# Altium integrated library General ICs.IntLib: 2 symbols
Pins are listed as number, name and electrical type; pins without a type are passive.

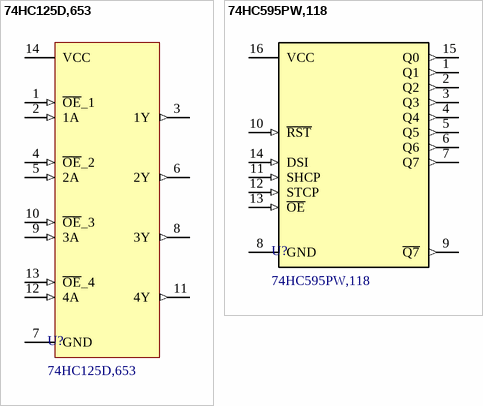
[diagram p0: symbols 74HC125D,653 to 74HC595PW,118]

## 74HC125D,653
designator U?
Quad buffer/line driver; 3-state; Manufacturer: Nexperia; Suplier 1: LCSC; ComponentLink1Description: LCSC; ComponentLink1URL: https://www.lcsc.com/product-detail/C5598.html?s_z=n_q_t_74HC125&spm=wm.fly.bg.16.xh___wm.ssy.tc.0.tz&lcsc_vid=EVRWVVBURVgMUVdfEVEIBl1XQFJcAlIHEQJYBgZQRAIxVlNeQFNYU1FfRFldXjsOAxUeFF5JWBYZEEoKFBINSQcJGk4%3D; ComponentLink2Description: Datasheet; ComponentLink2URL: https://www.lcsc.com/datasheet/C5598.pdf?spm=wm.sxq.inf.ggs___wm.fly.bg.16.xh&lcsc_vid=EVRWVVBURVgMUVdfEVEIBl1XQFJcAlIHEQJYBgZQRAIxVlNeQFNYU1FfRFldXjsOAxUeFF5JWBYZEEoKFBINSQcJGk4%3D; Manufacturer Part Number: 74HC125D,653; Supplier 1 Part Number: C5598
footprint 74HC125D,653
pins: 1 ~{OE}_1 (in), 2 1A (in), 3 1Y (out), 4 ~{OE}_2 (in), 5 2A (in), 6 2Y (out), 7 GND (power), 8 3Y (out), 9 3A (in), 10 ~{OE}_3 (in), 11 4Y (out), 12 4A (in), 13 ~{OE}_4 (in), 14 VCC (power)

## 74HC595PW,118
designator U?
8-bit serial-in, serial or parallel-out shift register with output latches; 3-state; Manufacturer: Nexperia; Manufacturer Part Number: 74HC595PW,118; Supplier 1: LCSC; Supplier 1 Part Number: C5948; Package: TSSOP-16; ComponentLink1Description: Datasheet; ComponentLink1URL: https://www.lcsc.com/datasheet/C5948.pdf?spm=wm.sxq.inf.ggs___wm.fly.bg.2.xh&lcsc_vid=ElNeBldWEwdbVQBQQQRYAgdSFQAMUlRfFFMMUAZRTgIxVlNeT1NXUldRT1lcUzsOAxUeFF5JWBYZEEoKFBINSQcJGk4eFQsCAgIaSgADAwAHC0slQlJfVlBRQFRADxALGw%3D%3D; ComponentLink2Description: LCSC; ComponentLink2URL: https://www.lcsc.com/product-detail/C5948.html?s_z=n_q_t_74HC595&spm=wm.fly.bg.2.xh___wm.ssy.tc.0.tz&lcsc_vid=ElNeBldWEwdbVQBQQQRYAgdSFQAMUlRfFFMMUAZRTgIxVlNeT1NXUldRT1lcUzsOAxUeFF5JWBYZEEoKFBINSQcJGk4eFQsCAgIaSgADAwAHC0slQlJfVlBRQFRADxALGw%3D%3D
footprint HG74HC595MT/TR (/ 170726 / J.Jaramillo)
pins: 1 Q1 (out), 2 Q2 (out), 3 Q3 (out), 4 Q4 (out), 5 Q5 (out), 6 Q6 (out), 7 Q7 (out), 8 GND (power), 9 ~{Q7} (out), 10 ~{RST} (in), 11 SHCP (in), 12 STCP (in), 13 ~{OE} (in), 14 DSI (in), 15 Q0 (out), 16 VCC (power)